# Altium footprint library GPS_lib.PcbLib: 14 footprints
Each footprint in its own frame and in the unit in brackets; x right, y up, seen from the top. Pads: shape width x height; smd on the part's side, far side on the other; paste and mask are expansions set on the pad; w line width, h text height; cw(c..) or ccw(c..) is an arc to the next point about the centre after c.
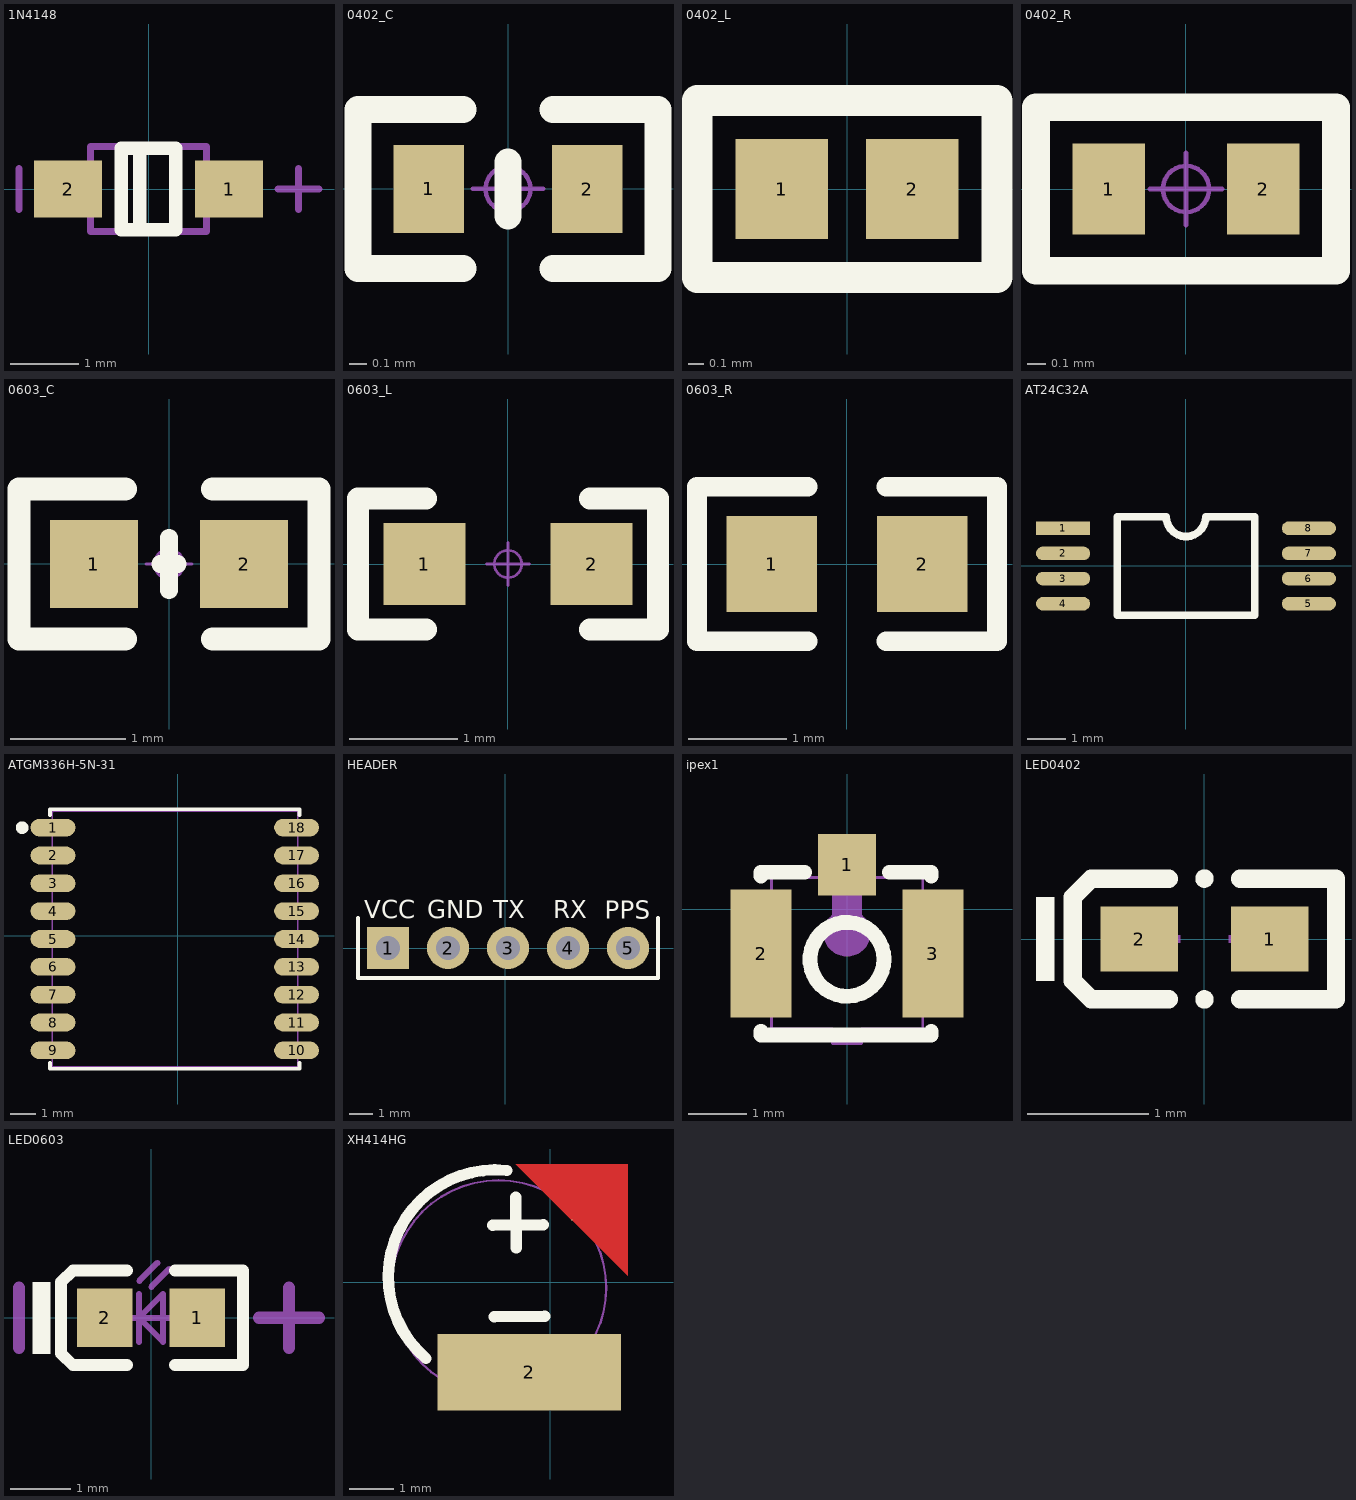
[diagram p0: the footprints below, top view; thin cyan lines are the x and y axes]

## 1N4148 [mm]
pads (2):
  rect 1x0.83 smd: 1(1.18,0) 2(-1.18,0)
Top Overlay:
  lines w0.2: -0.13,-0.6 -0.13,0.6 ; -0.4,-0.6 0.4,-0.6 0.4,0.6 -0.4,0.6 -0.4,-0.6
Mechanical 13:
  lines w0.1: -0.85,-0.625 -0.85,0.625 0.85,0.625 0.85,-0.625 -0.85,-0.625
Mechanical 15:
  lines w0.1: -1.9,-0.3 -1.9,0.3 ; 1.9,0 2.5,0 ; 2.2,-0.3 2.2,0.3
3D body "SOD323F.STEP": height 0.75, standoff -0.01, extent -1.4,-0.675 1.4,0.675

## 0402_C [mm] "无极性贴片电容"
pads (2):
  rect 0.4x0.5 smd: 1(-0.45,0) 2(0.45,0)
Top Overlay:
  lines w0.152: -0.254,-0.45 -0.85,-0.45 ; -0.254,0.45 -0.85,0.45 -0.85,-0.45 ; 0,-0.152 0,0.152 ; 0.254,-0.45 0.85,-0.45 0.85,0.45 0.254,0.45 ; -0.85,-0.45 -0.85,-0.45
Mechanical 15:
  circle w0.025: c0,0 r0.127
  lines w0.025: -0.2,0 0.2,0 ; 0,-0.2 0,0.2
3D body "C 0402.STEP": height 0.54, standoff 0.02, extent -0.5,-0.26 0.5,0.26

## 0402_L [mm]
pads (2):
  rect 0.6x0.65 smd mask+0.051: 1(-0.425,0) 2(0.425,0)
Top Overlay:
  lines w0.2: -0.975,-0.575 0.975,-0.575 0.975,0.575 -0.975,0.575 -0.975,-0.575
3D body "L0402.STEP": height 0.36, standoff -0.01, extent -0.512,-0.262 0.538,0.263

## 0402_R [mm] "1/16W贴片电阻"
pads (2):
  rect 0.4x0.5 smd: 1(-0.425,0) 2(0.425,0)
Top Overlay:
  lines w0.152: -0.825,-0.45 0.825,-0.45 0.825,0.45 -0.825,0.45 -0.825,-0.45
Mechanical 15:
  circle w0.025: c0,0 r0.127
  lines w0.025: -0.2,0 0.2,0 ; 0,-0.2 0,0.2
3D body "R0402.STEP": height 0.3, standoff 0, extent -0.5,-0.25 0.5,0.25

## 0603_C [mil] "无极性贴片电容"
pads (2):
  rect 30x30 smd: 1(-25.59,0) 2(25.59,0)
Top Overlay:
  lines w6: -3,0 0,0 3,0 ; 0,-9 0,9
  lines w8: -15,-25.59 -51.18,-25.59 -51.18,25.59 -15,25.59 ; 15,-25.59 51.18,-25.59 51.18,25.59 15,25.59
Mechanical 15:
  circle w1: c0,0 r5
  lines w1: -7.87,0 7.87,0 ; 0,-7.87 0,7.87
3D body "C 0603.STEP": height 32.89, standoff 0.61, extent -31.49,-16.14 31.5,16.14

## 0603_L [mil] "小功率贴片电感"
pads (2):
  rect 30x30 smd: 1(-30.59,0) 2(30.59,0)
Top Overlay:
  lines w8: -30,-24 -54.82,-24 -54.82,24 -30,24 ; 30,-24 54.83,-24 54.83,24 30,24
Mechanical 15:
  circle w1: c0,0 r5
  lines w1: -7.87,0 7.88,0 ; 0,-7.87 0,7.88
3D body "l0603.STEP": height 31.5, standoff 0, extent -31.49,-15.74 31.51,15.76

## 0603_R [mm]
pads (2):
  rect 0.93x0.98 smd: 1(-0.77,0) 2(0.77,0)
Top Overlay:
  lines w0.2: -0.4,-0.79 -1.535,-0.79 -1.535,0.79 -0.4,0.79 ; 0.4,-0.79 1.535,-0.79 1.535,0.79 0.4,0.79
3D body "User Library-RES_1609-0603.STEP": height 0.56, standoff 0, extent -0.85,-0.4 0.85,0.4

## AT24C32A [mm] "TSSOP-8_L3.0-W4.4-H1.0-LS6.4-P0.65"
pads (8):
  rect 1.4x0.35 smd: 1(-3.175,0.975)
  oval 1.4x0.35 smd: 2(-3.175,0.325) 3(-3.175,-0.325) 4(-3.175,-0.975) 5(3.175,-0.975) 6(3.175,-0.325) 7(3.175,0.325) 8(3.175,0.975)
Top Overlay:
  lines w0.2: -1.778,-1.27 1.778,-1.27 1.778,1.27 0.508,1.27 cw(c0,1.27) -0.508,1.27 -1.778,1.27 -1.778,-1.27
3D body "tsSOP8-2.STEP": height 1.14, standoff -0.05, extent -3.178,-1.575 3.103,1.425

## ATGM336H-5N-31 [mm]
pads (18):
  oval 1.773x0.7 smd paste+0 mask+0.051: 1(-4.938,4.273) 2(-4.938,3.173) 3(-4.938,2.073) 4(-4.938,0.973) 5(-4.938,-0.127) 6(-4.938,-1.227) 7(-4.938,-2.327) 8(-4.938,-3.427) 9(-4.938,-4.527) 10(4.685,-4.527) 11(4.685,-3.427) 12(4.685,-2.327) 13(4.685,-1.227) 14(4.685,-0.127) 15(4.685,0.973) 16(4.685,2.073) 17(4.685,3.173) 18(4.685,4.273)
Top Overlay:
  circle w0.25: c-6.157,4.273 r0.125
  lines w0.152: -5.053,-5.025 -5.053,-5.253 4.799,-5.253 4.799,-5.025 ; -5.053,4.771 -5.053,4.999 4.799,4.999 4.799,4.771
Mechanical 15:
  region: -4.977,4.983 -5.002,4.983 -5.037,4.948 -5.037,4.898 -5.002,4.863 -4.977,4.863 -4.952,4.863 -4.917,4.898 -4.917,4.948 -4.952,4.983 -4.977,4.983
  lines w0.051: -4.977,-5.177 4.723,-5.177 4.723,4.923 -4.977,4.923 -4.977,-5.177
3D body "ATGM336H-5N31.stp": height 2.4, standoff 0, extent -4.977,-5.177 4.723,4.923

## HEADER [mil]
pads (5):
  rect 70x70 hole 39.37: 1(-195,0)
  round 70 hole 39.37: 2(-95,0) 3(5,0) 4(105,0) 5(205,0)
Top Overlay:
  lines w6: -245,50 -245,-50 255,-50 255,50
  text "PPS" at 166.57,48.47 h30
  text "RX" at 80,50 h30
  text "TX" at -20,50 h30
  text "GND" at -130,50 h30
  text "VCC" at -235,50 h30

## ipex1 [mm]
pads (3):
  rect 1x1.05 smd paste+0 mask+0.05: 1(0,0.763)
  rect 1.05x2.2 smd paste+0 mask+0.05: 2(-1.475,-0.763) 3(1.475,-0.763)
Top Overlay:
  circle w0.254: c0,-0.86 r0.635
  lines w0.254: -1.475,-2.094 -1.475,-2.16 1.33,-2.16 1.446,-2.16 1.446,-2.094 ; -0.731,0.636 -1.475,0.636 ; 0.731,0.636 1.446,0.636 ; -1.475,0.636 -1.475,0.569 -1.475,0.636 ; 1.446,0.636 1.446,0.569 1.446,0.636
Mechanical 15:
  region: -0.25,-2.31 -0.25,-2.06 0.25,-2.06 0.25,-2.31 -0.25,-2.31
  region: 0.25,-0.098 0.25,0.792 -0.25,0.792 -0.25,-0.098 -0.262,-0.108 -0.283,-0.127 -0.302,-0.148 -0.32,-0.17 -0.336,-0.194 -0.351,-0.218 -0.364,-0.244 -0.375,-0.27 -0.384,-0.297 -0.391,-0.325 -0.396,-0.353 -0.399,-0.381 -0.4,-0.41 -0.399,-0.439 -0.396,-0.467 -0.391,-0.495 -0.384,-0.523 -0.375,-0.55 -0.364,-0.576 -0.351,-0.602 -0.336,-0.626 -0.32,-0.65 -0.302,-0.672 -0.283,-0.693 -0.262,-0.712 -0.24,-0.73 -0.216,-0.747 -0.192,-0.761 -0.166,-0.774 -0.14,-0.785 -0.113,-0.794 -0.085,-0.801 -0.057,-0.806 -0.029,-0.809 0,-0.81 0.029,-0.809 0.057,-0.806 0.085,-0.801 0.113,-0.794 0.14,-0.785 0.166,-0.774 0.192,-0.761 0.216,-0.747 0.24,-0.73 0.262,-0.712 0.283,-0.693 0.302,-0.672 0.32,-0.65 0.336,-0.626 0.351,-0.602 0.364,-0.576 0.375,-0.55 0.384,-0.523 0.391,-0.495 0.396,-0.467 0.399,-0.439 0.4,-0.41 0.399,-0.381 0.396,-0.353 0.391,-0.325 0.384,-0.297 0.375,-0.27 0.364,-0.244 0.351,-0.218 0.336,-0.194 0.32,-0.17 0.302,-0.148 0.283,-0.127 0.262,-0.108
  region: 1,0.137 1.5,0.137 1.5,-1.663 1,-1.663
  region: -1.5,0.137 -1,0.137 -1,-1.663 -1.5,-1.663
  lines w0.051: -1.3,-2.058 -0.25,-2.058 -0.25,-2.308 0.25,-2.308 0.25,-2.058 1.3,-2.058 1.3,0.542 -1.3,0.542 -1.3,-2.058
3D body "3D_PCB1_2023-03-251.STEP": height 1.26, standoff 0, extent -1.475,-2.313 1.525,0.787

## LED0402 [mm]
pads (2):
  rect 0.636x0.54 smd paste-100 mask+0.051: 1(0.538,0) 2(-0.538,0)
Top Overlay:
  circle w0.076: c0,0.499 r0.038
  circle w0.076: c0,-0.499 r0.038
  region: -1.237,-0.346 -1.237,0.346 -1.39,0.346 -1.39,-0.346
  lines w0.152: -0.296,-0.499 -0.933,-0.499 -1.085,-0.346 -1.085,0.346 -0.933,0.499 -0.296,0.499 ; 0.296,-0.499 1.085,-0.499 1.085,0.499 0.296,0.499
Mechanical 6:
  region: 0.35,-0.2 0.35,0.2 0.29,0.2 0.29,-0.2
  region: 0.44,-0.03 0.44,0.03 0.2,0.03 0.2,-0.03
  region: -0.44,-0.03 -0.44,0.03 -0.2,0.03 -0.2,-0.03

## LED0603 [mm]
pads (2):
  rect 0.93x0.98 smd: 1(0.77,0) 2(-0.77,0)
Top Overlay:
  rectangle: -1.975,-0.6 -1.675,0.6
  lines w0.2: -0.4,-0.79 -1.3,-0.79 -1.5,-0.597 -1.5,0.597 -1.3,0.79 -0.4,0.79 ; 0.4,-0.79 1.535,-0.79 1.535,0.79 0.4,0.79
Mechanical 13:
  lines w0.1: -0.4,0 0.4,0 ; -0.2,-0.4 -0.2,0.4 ; -0.195,0.617 0.105,0.917 ; 0.005,0.517 0.305,0.817 ; -0.2,0 0.2,-0.4 0.2,0.4 -0.2,0
Mechanical 15:
  lines w0.203: -2.2,-0.5 -2.2,0.5 ; 1.8,0 2.8,0 ; 2.3,-0.5 2.3,0.5
3D body "User Library-LED_0603_R.STEP": height 0.6, standoff 0, extent -0.8,-0.4 0.8,0.4

## XH414HG [mil]
pads (2):
  round 1 smd: 1(18.7,54.63)
  rect 161.4x66.93 smd paste+0 mask+2: 2(-18.7,-79.23)
Top Layer:
  region: -30.51,103.84 67.92,103.84 67.92,5.42
Top Overlay:
  lines w10: -109.38,-67.19 cw(c-48.45,4.56) -38.51,98.16 ; -50.89,50.1 -6.4,50.5 ; -49.49,-30.39 -5,-30 ; -30.39,74.49 -30,30
Mechanical 15:
  region: 53.35,92.13 53.35,93.1 51.96,94.49 50.01,94.49 48.62,93.1 48.62,92.13 48.62,91.15 50.01,89.76 51.96,89.76 53.35,91.15 53.35,92.13
  lines w2: -140.35,-5.12 ccw(c-45.67,-5.12) 49.02,-5.12 ccw(c-45.67,-5.12) -140.35,-5.12
3D body "3D_PCB1_2023-03-25.STEP": height 72.84, standoff 0, extent -135,-99.69 53.98,89.69